# EAGLE library part DSHP08TS-S (library SamacSys_Parts)
Dip switch 8 bit,1.27mm, black stick Source: Datasheet <http://www.helloxkb.com/public/images/pdf/DSHPXXTS-S.pdf>
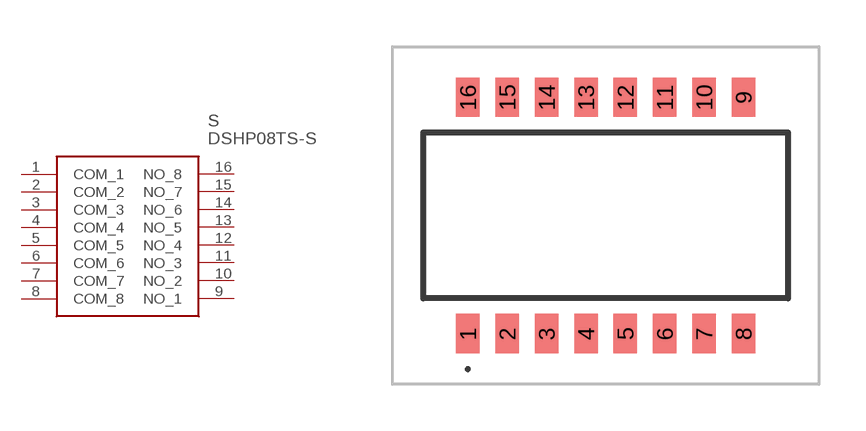
[diagram p258: symbol with the pads of DSHP08TSS; footprint DSHP08TSS]

Designator prefix S

## DSHP08TS-S (DESCRIPTION: Dip switch 8 bit,1.27mm, black stick; HEIGHT: 2.35mm; MANUFACTURER_NAME: XKB Connectivity; MANUFACTURER_PART_NUMBER: DSHP08TS-S)  [DSHP08TSS]
1  COM_1
2  COM_2
3  COM_3
4  COM_4
5  COM_5
6  COM_6
7  COM_7
8  COM_8
9  NO_1
10  NO_2
11  NO_3
12  NO_4
13  NO_5
14  NO_6
15  NO_7
16  NO_8

## Footprint DSHP08TSS (pad centres in mm)
DSHP08TS-S-1
smd 0.76 x 1.27: 1 -4.445,-3.81; 2 -3.175,-3.81; 3 -1.905,-3.81; 4 -0.635,-3.81; 5 0.635,-3.81; 6 1.905,-3.81; 7 3.175,-3.81; 8 4.445,-3.81; 9 4.445,3.81; 10 3.175,3.81; 11 1.905,3.81; 12 0.635,3.81; 13 -0.635,3.81; 14 -1.905,3.81; 15 -3.175,3.81; 16 -4.445,3.81